# Altium footprint library Transformers.PcbLib: 55 footprints (part 4 of 4)
Each footprint in its own frame and in the unit in brackets; x right, y up, seen from the top. Pads: shape width x height; smd on the part's side, far side on the other; paste and mask are expansions set on the pad; w line width, h text height; cw(c..) or ccw(c..) is an arc to the next point about the centre after c.
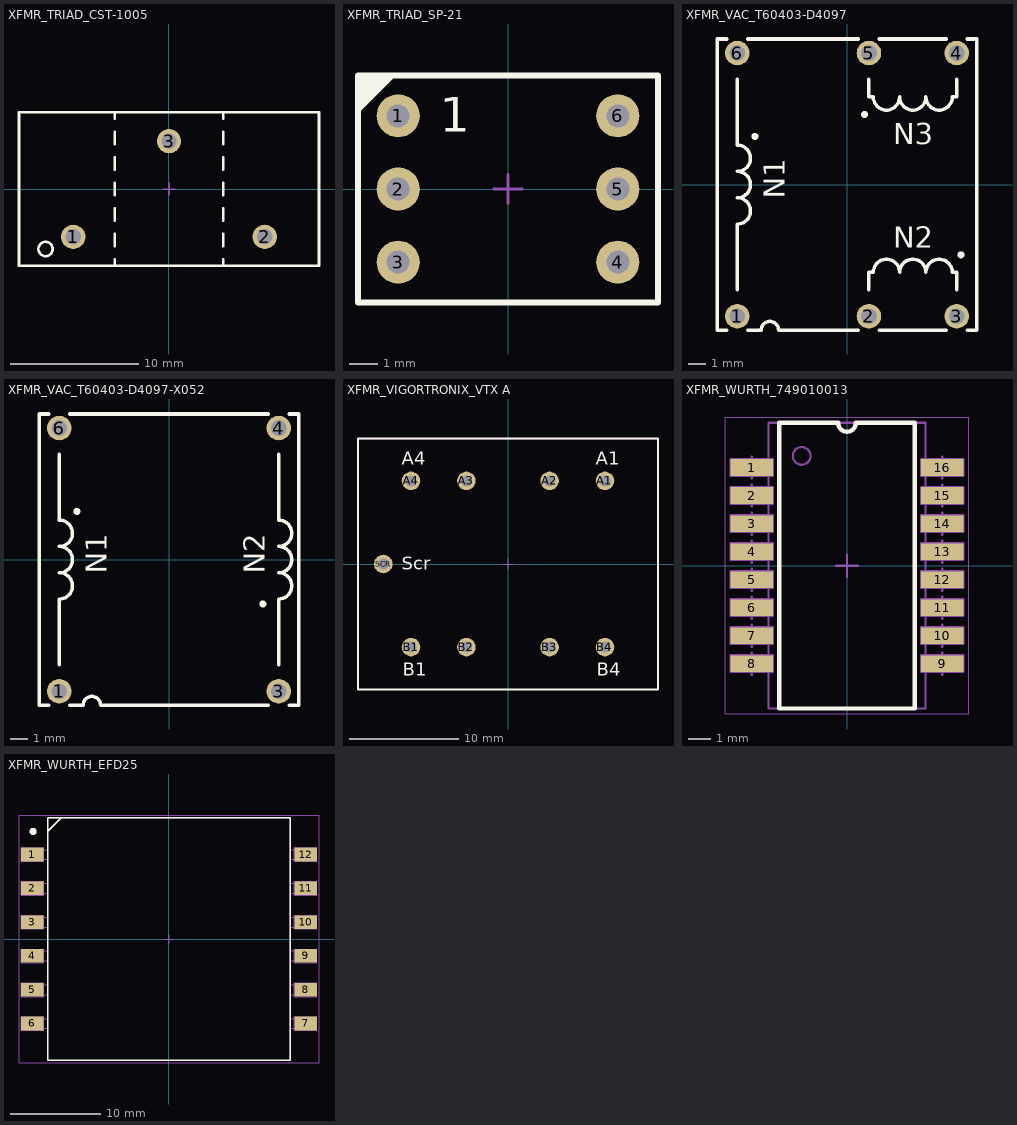
[diagram p3: the footprints below, top view; thin cyan lines are the x and y axes]

## XFMR_TRIAD_CST-1005 [mm] "Current Sensing Transformer - Body 23.5 L x 12mm W x 24.8 H"
height 24.8
pads (3):
  round 1.9 hole 1.2: 1(-7.5,-3.75) 2(7.5,-3.75) 3(0,3.75)
Top Overlay:
  circle w0.2: c-9.675,-4.7 r0.559
  lines w0.2: -4.25,-6 -4.25,-5.5 ; -4.25,-4.5 -4.25,-3.5 ; -4.25,-2.5 -4.25,-1.5 ; -4.25,-0.5 -4.25,0.5 ; -4.25,1.5 -4.25,2.5 ; -4.25,3.5 -4.25,4.5 ; -4.25,5.5 -4.25,6 ; 4.25,-6 4.25,-5.5 ; 4.25,-4.5 4.25,-3.5 ; 4.25,-2.5 4.25,-1.5 ; 4.25,-0.5 4.25,0.5 ; 4.25,1.5 4.25,2.5 ; 4.25,3.5 4.25,4.5 ; 4.25,5.5 4.25,6 ; -11.75,-6 -11.75,6 11.75,6 11.75,-6 -11.75,-6
Mechanical 8:
  lines w0.1: -8,-3.75 -7.5,-3.75 ; -7.5,-4.25 -7.5,-3.75 ; -7.5,-3.25 -7.5,-3.75 ; -7,-3.75 -7.5,-3.75 ; -0.5,0 0,0 ; -0.5,3.75 0,3.75 ; 0,-0.5 0,0 ; 0,0.5 0,0 ; 0,3.25 0,3.75 ; 0,4.25 0,3.75 ; 0.5,0 0,0 ; 0.5,3.75 0,3.75 ; 7,-3.75 7.5,-3.75 ; 7.5,-4.25 7.5,-3.75 ; 7.5,-3.25 7.5,-3.75 ; 8,-3.75 7.5,-3.75
Mechanical 14:
  circle w0.1: c-9.675,-4.7 r0.559
  lines w0.1: -4.25,-6 -4.25,-5.5 ; -4.25,-4.5 -4.25,-3.5 ; -4.25,-2.5 -4.25,-1.5 ; -4.25,-0.5 -4.25,0.5 ; -4.25,1.5 -4.25,2.5 ; -4.25,3.5 -4.25,4.5 ; -4.25,5.5 -4.25,6 ; 4.25,-6 4.25,-5.5 ; 4.25,-4.5 4.25,-3.5 ; 4.25,-2.5 4.25,-1.5 ; 4.25,-0.5 4.25,0.5 ; 4.25,1.5 4.25,2.5 ; 4.25,3.5 4.25,4.5 ; 4.25,5.5 4.25,6 ; -11.75,-6 -11.75,6 11.75,6 11.75,-6 -11.75,-6
3D body "XFMR_TRIAD_CST-1005.stp": height 24.78, standoff -3.8, extent -11.75,-6 11.75,6

## XFMR_TRIAD_SP-21 [mm] "Audio Transformer- Body 10.41X7.87mm"
height 11.8
pads (6):
  round 1.5 hole 0.8: 1(-3.81,2.54) 2(-3.81,0) 3(-3.81,-2.54) 4(3.81,-2.54) 5(3.81,0) 6(3.81,2.54)
Top Overlay:
  lines w0.2: -5.205,2.75 -4.023,3.933 ; -5.205,3 -4.25,3.935 ; -5.205,3.25 -4.5,3.935 ; -5.205,3.5 -4.75,3.935 ; -5.2,3.75 -5.015,3.935 ; -5.205,-3.935 5.205,-3.935 5.205,3.935 -5.205,3.935 -5.205,-3.935
  text "1" at -2.361,1.983 h1.2
Mechanical 8:
  lines w0.1: -4.31,-2.54 -3.81,-2.54 ; -4.31,0 -3.81,0 ; -4.31,2.54 -3.81,2.54 ; -3.81,-3.04 -3.81,-2.54 ; -3.81,-2.04 -3.81,-2.54 ; -3.81,-0.5 -3.81,0 ; -3.81,0.5 -3.81,0 ; -3.81,2.04 -3.81,2.54 ; -3.81,3.04 -3.81,2.54 ; -3.31,-2.54 -3.81,-2.54 ; -3.31,0 -3.81,0 ; -3.31,2.54 -3.81,2.54 ; -0.5,0 0,0 ; 0,-0.5 0,0 ; 0,0.5 0,0 ; 0.5,0 0,0 ; 3.31,-2.54 3.81,-2.54 ; 3.31,0 3.81,0 ; 3.31,2.54 3.81,2.54 ; 3.81,-3.04 3.81,-2.54 ; 3.81,-2.04 3.81,-2.54 ; 3.81,-0.5 3.81,0 ; 3.81,0.5 3.81,0 ; 3.81,2.04 3.81,2.54 ; 3.81,3.04 3.81,2.54 ; 4.31,-2.54 3.81,-2.54 ; 4.31,0 3.81,0 ; 4.31,2.54 3.81,2.54
Mechanical 14:
  lines w0.1: -5.205,-3.935 -5.205,3.935 5.205,3.935 5.205,-3.935 -5.205,-3.935
  text "1" at -2.361,1.983 h1.2
3D body "XFMR_TRIAD_SP-21.stp": height 11.8, standoff -3.49, extent -5.205,-3.935 5.205,3.935

## XFMR_VAC_T60403-D4097 [mm] "VACUUMSCHMELZE Drive Transformer - Body 14.8X16.6mm"
height 13.5
pads (6):
  round 1.4 hole 0.9: 1(-6.25,-7.5) 2(1.25,-7.5) 3(6.25,-7.5) 4(6.25,7.5) 5(1.25,7.5) 6(-6.25,7.5)
Top Overlay:
  circle w0.2: c-5.25,2.75 r0.1
  circle w0.2: c1,4 r0.1
  circle w0.2: c6.5,-4 r0.1
  lines w0.2: -6.85,-8.3 -7.4,-8.3 -7.4,8.3 -6.85,8.3 ; -6.25,-6 -6.25,-2.25 ccw(c-6.25,-1.5) -6.25,-0.75 ccw(c-6.25,0) -6.25,0.75 ccw(c-6.25,1.5) -6.25,2.25 -6.25,6 ; -5.65,-8.3 -4.9,-8.3 cw(c-4.4,-8.3) -3.9,-8.3 0.65,-8.3 ; -5.65,8.3 0.65,8.3 ; 1.25,-6 1.25,-5 1.5,-5 cw(c2.25,-5) 3,-5 cw(c3.75,-5) 4.5,-5 cw(c5.25,-5) 6,-5 6.25,-5 6.25,-6 ; 1.25,6 1.25,5 1.5,5 ccw(c2.25,5) 3,5 ccw(c3.75,5) 4.5,5 ccw(c5.25,5) 6,5 6.25,5 6.25,6 ; 1.85,-8.3 5.65,-8.3 ; 1.85,8.3 5.65,8.3 ; 6.85,-8.3 7.4,-8.3 7.4,8.3 6.85,8.3
  text "N1" at -3.55,-0.807 h1.2
  text "N3" at 2.643,2.3 h1.2
  text "N2" at 2.643,-3.6 h1.2
Mechanical 14:
  circle w0.1: c-5.25,2.75 r0.1
  circle w0.1: c1,4 r0.1
  circle w0.1: c6.5,-4 r0.1
  lines w0.1: -6.85,-8.3 -7.4,-8.3 -7.4,8.3 -6.85,8.3 ; -6.25,-6 -6.25,-2.25 ccw(c-6.25,-1.5) -6.25,-0.75 ccw(c-6.25,0) -6.25,0.75 ccw(c-6.25,1.5) -6.25,2.25 -6.25,6 ; -5.65,-8.3 -4.9,-8.3 cw(c-4.4,-8.3) -3.9,-8.3 0.65,-8.3 ; -5.65,8.3 0.65,8.3 ; 1.25,-6 1.25,-5 1.5,-5 cw(c2.25,-5) 3,-5 cw(c3.75,-5) 4.5,-5 cw(c5.25,-5) 6,-5 6.25,-5 6.25,-6 ; 1.25,6 1.25,5 1.5,5 ccw(c2.25,5) 3,5 ccw(c3.75,5) 4.5,5 ccw(c5.25,5) 6,5 6.25,5 6.25,6 ; 1.85,-8.3 5.65,-8.3 ; 1.85,8.3 5.65,8.3 ; 6.85,-8.3 7.4,-8.3 7.4,8.3 6.85,8.3
  text "N1" at -3.55,-0.807 h1.2
  text "N3" at 2.643,2.3 h1.2
  text "N2" at 2.643,-3.6 h1.2
3D body "XFMR_VAC_T60403-D4097.stp": height 13.5, standoff -3.6, extent -7.4,-8.3 7.4,8.3

## XFMR_VAC_T60403-D4097-X052 [mm] "VACUUMSCHMELZE Drive Transformer - Body 14.8X16.6mm"
height 13.5
pads (4):
  round 1.4 hole 0.9: 1(-6.25,-7.5) 3(6.25,-7.5) 4(6.25,7.5) 6(-6.25,7.5)
Top Overlay:
  circle w0.2: c-5.25,2.75 r0.1
  circle w0.2: c5.35,-2.525 r0.1
  lines w0.2: -6.85,-8.3 -7.4,-8.3 -7.4,8.3 -6.85,8.3 ; -6.25,-6 -6.25,-2.25 ccw(c-6.25,-1.5) -6.25,-0.75 ccw(c-6.25,0) -6.25,0.75 ccw(c-6.25,1.5) -6.25,2.25 -6.25,6 ; -5.65,-8.3 -4.9,-8.3 cw(c-4.4,-8.3) -3.9,-8.3 5.65,-8.3 ; -5.65,8.3 5.65,8.3 ; 6.25,-6 6.25,-2.25 ccw(c6.25,-1.5) 6.25,-0.75 ccw(c6.25,0) 6.25,0.75 ccw(c6.25,1.5) 6.25,2.25 6.25,6 ; 6.85,-8.3 7.4,-8.3 7.4,8.3 6.85,8.3
  text "N1" at -3.55,-0.807 h1.2
  text "N2" at 5.45,-0.807 h1.2
Mechanical 14:
  circle w0.1: c-5.25,2.75 r0.1
  circle w0.1: c5.35,-2.525 r0.1
  lines w0.1: -6.85,-8.3 -7.4,-8.3 -7.4,8.3 -6.85,8.3 ; -6.25,-6 -6.25,-2.25 ccw(c-6.25,-1.5) -6.25,-0.75 ccw(c-6.25,0) -6.25,0.75 ccw(c-6.25,1.5) -6.25,2.25 -6.25,6 ; -5.65,-8.3 -4.9,-8.3 cw(c-4.4,-8.3) -3.9,-8.3 5.65,-8.3 ; -5.65,8.3 5.65,8.3 ; 6.25,-6 6.25,-2.25 ccw(c6.25,-1.5) 6.25,-0.75 ccw(c6.25,0) 6.25,0.75 ccw(c6.25,1.5) 6.25,2.25 6.25,6 ; 6.85,-8.3 7.4,-8.3 7.4,8.3 6.85,8.3
  text "N1" at -3.55,-0.807 h1.2
  text "N2" at 5.45,-0.807 h1.2
3D body "XFMR_VAC_T60403-D4097-X052.stp": height 13.5, standoff -3.6, extent -7.4,-8.3 7.4,8.3

## XFMR_VIGORTRONIX_VTX A [mm] "VIGORTRONIX VTX A-Serie Audio Range Transformer - Body 27.5 x 23mm"
height 22.5
pads (9):
  round 1.7 hole 1: A1(8.89,7.62) A2(3.81,7.62) A3(-3.81,7.62) A4(-8.89,7.62) B1(-8.89,-7.62) B2(-3.81,-7.62) B3(3.81,-7.62) B4(8.89,-7.62) SCR(-11.43,0)
Top Overlay:
  lines w0.2: -13.75,-11.5 -13.75,11.5 13.75,11.5 13.75,-11.5 -13.75,-11.5
  text "Scr" at -9.717,-0.52 h1.2
  text "B4" at 8.148,-10.265 h1.2
  text "B1" at -9.632,-10.265 h1.2
  text "A1" at 8.023,9.1 h1.2
  text "A4" at -9.757,9.1 h1.2
Mechanical 8:
  lines w0.1: -11.93,0 -11.43,0 ; -11.43,-0.5 -11.43,0 ; -11.43,0.5 -11.43,0 ; -10.93,0 -11.43,0 ; -9.39,-7.62 -8.89,-7.62 ; -9.39,7.62 -8.89,7.62 ; -8.89,-8.12 -8.89,-7.62 ; -8.89,-7.12 -8.89,-7.62 ; -8.89,7.12 -8.89,7.62 ; -8.89,8.12 -8.89,7.62 ; -8.39,-7.62 -8.89,-7.62 ; -8.39,7.62 -8.89,7.62 ; -4.31,-7.62 -3.81,-7.62 ; -4.31,7.62 -3.81,7.62 ; -3.81,-8.12 -3.81,-7.62 ; -3.81,-7.12 -3.81,-7.62 ; -3.81,7.12 -3.81,7.62 ; -3.81,8.12 -3.81,7.62 ; -3.31,-7.62 -3.81,-7.62 ; -3.31,7.62 -3.81,7.62 ; -0.5,0 0,0 ; 0,-0.5 0,0 ; 0,0.5 0,0 ; 0.5,0 0,0 ; 3.31,-7.62 3.81,-7.62 ; 3.31,7.62 3.81,7.62 ; 3.81,-8.12 3.81,-7.62 ; 3.81,-7.12 3.81,-7.62 ; 3.81,7.12 3.81,7.62 ; 3.81,8.12 3.81,7.62 ; 4.31,-7.62 3.81,-7.62 ; 4.31,7.62 3.81,7.62 ; 8.39,-7.62 8.89,-7.62 ; 8.39,7.62 8.89,7.62 ; 8.89,-8.12 8.89,-7.62 ; 8.89,-7.12 8.89,-7.62 ; 8.89,7.12 8.89,7.62 ; 8.89,8.12 8.89,7.62 ; 9.39,-7.62 8.89,-7.62 ; 9.39,7.62 8.89,7.62
Mechanical 14:
  lines w0.1: -13.75,-11.5 -13.75,11.5 13.75,11.5 13.75,-11.5 -13.75,-11.5
  text "Scr" at -9.717,-0.52 h1.2
  text "B4" at 8.148,-10.265 h1.2
  text "B1" at -9.632,-10.265 h1.2
  text "A1" at 8.023,9.1 h1.2
  text "A4" at -9.757,9.1 h1.2
3D body "XFMR_VIGORTRONIX_VTX A.stp": height 22.5, standoff -3.6, extent -13.75,-11.5 13.75,11.5

## XFMR_WURTH_749010013 [mm] "10/100/1000 Base-Tx  LAN Transformer, Body 7.11 x 12.95mm"
height 5.33
pads (16):
  rect 1.91x0.76 smd: 1(-4.318,4.445) 2(-4.318,3.175) 3(-4.318,1.905) 4(-4.318,0.635) 5(-4.318,-0.635) 6(-4.318,-1.905) 7(-4.318,-3.175) 8(-4.318,-4.445) 9(4.318,-4.445) 10(4.318,-3.175) 11(4.318,-1.905) 12(4.318,-0.635) 13(4.318,0.635) 14(4.318,1.905) 15(4.318,3.175) 16(4.318,4.445)
Top Overlay:
  lines w0.2: -3.063,-6.475 3.063,-6.475 3.063,6.475 0.4,6.475 cw(c0,6.475) -0.4,6.475 -3.063,6.475 -3.063,-6.475
Mechanical 8:
  drawing of 196 lines, arcs and shapes, not listed
Mechanical 14:
  circle w0.1: c-2.055,4.975 r0.4
  lines w0.1: -3.555,-6.475 3.555,-6.475 3.555,6.475 -3.555,6.475 -3.555,-6.475
Mechanical 15:
  lines w0.05: -5.523,-6.725 -5.523,6.725 5.523,6.725 5.523,-6.725 -5.523,-6.725
3D body "XFMR_WURTH_749010013.stp": height 5.33, standoff 0, extent -4.7,-6.475 4.7,6.475

## XFMR_WURTH_EFD25 [mm] "WE-FB Flyback Transformer, Body 32.31 x 27.03mm, Size EFD25"
height 13.69
pads (12):
  rect 2.5x1.52 smd: 1(-15.19,9.4) 2(-15.19,5.64) 3(-15.19,1.88) 4(-15.19,-1.88) 5(-15.19,-5.64) 6(-15.19,-9.4) 7(15.19,-9.4) 8(15.19,-5.64) 9(15.19,-1.88) 10(15.19,1.88) 11(15.19,5.64) 12(15.19,9.4)
Top Overlay:
  circle w0.4: c-15.125,11.975 r0.2
  lines w0.2: -12,13.5 -13.5,12 ; -13.5,12 -13.5,12 ; -13.5,-13.5 -13.5,13.5 13.5,13.5 13.5,-13.5 -13.5,-13.5
Mechanical 8:
  lines w0.1: -15.69,-9.4 -15.19,-9.4 ; -15.69,-5.64 -15.19,-5.64 ; -15.69,-1.88 -15.19,-1.88 ; -15.69,1.88 -15.19,1.88 ; -15.69,5.64 -15.19,5.64 ; -15.69,9.4 -15.19,9.4 ; -15.19,-9.9 -15.19,-9.4 ; -15.19,-8.9 -15.19,-9.4 ; -15.19,-6.14 -15.19,-5.64 ; -15.19,-5.14 -15.19,-5.64 ; -15.19,-2.38 -15.19,-1.88 ; -15.19,-1.38 -15.19,-1.88 ; -15.19,1.38 -15.19,1.88 ; -15.19,2.38 -15.19,1.88 ; -15.19,5.14 -15.19,5.64 ; -15.19,6.14 -15.19,5.64 ; -15.19,8.9 -15.19,9.4 ; -15.19,9.9 -15.19,9.4 ; -14.69,-9.4 -15.19,-9.4 ; -14.69,-5.64 -15.19,-5.64 ; -14.69,-1.88 -15.19,-1.88 ; -14.69,1.88 -15.19,1.88 ; -14.69,5.64 -15.19,5.64 ; -14.69,9.4 -15.19,9.4 ; -0.5,0 0,0 ; 0,-0.5 0,0 ; 0,0.5 0,0 ; 0.5,0 0,0 ; 14.69,-9.4 15.19,-9.4 ; 14.69,-5.64 15.19,-5.64 ; 14.69,-1.88 15.19,-1.88 ; 14.69,1.88 15.19,1.88 ; 14.69,5.64 15.19,5.64 ; 14.69,9.4 15.19,9.4 ; 15.19,-9.9 15.19,-9.4 ; 15.19,-8.9 15.19,-9.4 ; 15.19,-6.14 15.19,-5.64 ; 15.19,-5.14 15.19,-5.64 ; 15.19,-2.38 15.19,-1.88 ; 15.19,-1.38 15.19,-1.88 ; 15.19,1.38 15.19,1.88 ; 15.19,2.38 15.19,1.88 ; 15.19,5.14 15.19,5.64 ; 15.19,6.14 15.19,5.64 ; 15.19,8.9 15.19,9.4 ; 15.19,9.9 15.19,9.4 ; 15.69,-9.4 15.19,-9.4 ; 15.69,-5.64 15.19,-5.64 ; 15.69,-1.88 15.19,-1.88 ; 15.69,1.88 15.19,1.88 ; 15.69,5.64 15.19,5.64 ; 15.69,9.4 15.19,9.4 ; -16.44,-10.16 -13.94,-10.16 -13.94,-8.64 -16.44,-8.64 -16.44,-10.16 ; -16.44,-6.4 -13.94,-6.4 -13.94,-4.88 -16.44,-4.88 -16.44,-6.4 ; -16.44,-2.64 -13.94,-2.64 -13.94,-1.12 -16.44,-1.12 -16.44,-2.64 ; -16.44,1.12 -13.94,1.12 -13.94,2.64 -16.44,2.64 -16.44,1.12 ; -16.44,4.88 -13.94,4.88 -13.94,6.4 -16.44,6.4 -16.44,4.88 ; -16.44,8.64 -13.94,8.64 -13.94,10.16 -16.44,10.16 -16.44,8.64 ; 13.94,-10.16 16.44,-10.16 16.44,-8.64 13.94,-8.64 13.94,-10.16 ; 13.94,-6.4 16.44,-6.4 16.44,-4.88 13.94,-4.88 13.94,-6.4 ; 13.94,-2.64 16.44,-2.64 16.44,-1.12 13.94,-1.12 13.94,-2.64 ; 13.94,1.12 16.44,1.12 16.44,2.64 13.94,2.64 13.94,1.12 ; 13.94,4.88 16.44,4.88 16.44,6.4 13.94,6.4 13.94,4.88 ; 13.94,8.64 16.44,8.64 16.44,10.16 13.94,10.16 13.94,8.64
Mechanical 14:
  lines w0.1: -13.5,-9.95 -15.75,-9.95 -15.75,-8.85 -13.5,-8.85 ; -13.5,-6.19 -15.75,-6.19 -15.75,-5.09 -13.5,-5.09 ; -13.5,-2.43 -15.75,-2.43 -15.75,-1.33 -13.5,-1.33 ; -13.5,1.33 -15.75,1.33 -15.75,2.43 -13.5,2.43 ; -13.5,5.09 -15.75,5.09 -15.75,6.19 -13.5,6.19 ; -13.5,8.85 -15.75,8.85 -15.75,9.95 -13.5,9.95 ; -13.5,12 -12,13.5 ; 13.5,-9.95 15.75,-9.95 15.75,-8.85 13.5,-8.85 ; 13.5,-6.19 15.75,-6.19 15.75,-5.09 13.5,-5.09 ; 13.5,-2.43 15.75,-2.43 15.75,-1.33 13.5,-1.33 ; 13.5,1.33 15.75,1.33 15.75,2.43 13.5,2.43 ; 13.5,5.09 15.75,5.09 15.75,6.19 13.5,6.19 ; 13.5,8.85 15.75,8.85 15.75,9.95 13.5,9.95 ; -13.5,-13.5 -13.5,13.5 13.5,13.5 13.5,-13.5 -13.5,-13.5
Mechanical 15:
  lines w0.05: -16.69,-13.75 16.69,-13.75 16.69,13.75 -16.69,13.75 -16.69,-13.75
3D body "XFMR_WURTH_EFD25.stp": height 13.69, standoff 0, extent -15.75,-13.5 15.75,13.5